# Altium footprint library Pakage_lib.pcblib: 90 footprints (part 5 of 6)
Each footprint in its own frame and in the unit in brackets; x right, y up, seen from the top. Pads: shape width x height; smd on the part's side, far side on the other; paste and mask are expansions set on the pad; w line width, h text height; cw(c..) or ccw(c..) is an arc to the next point about the centre after c.
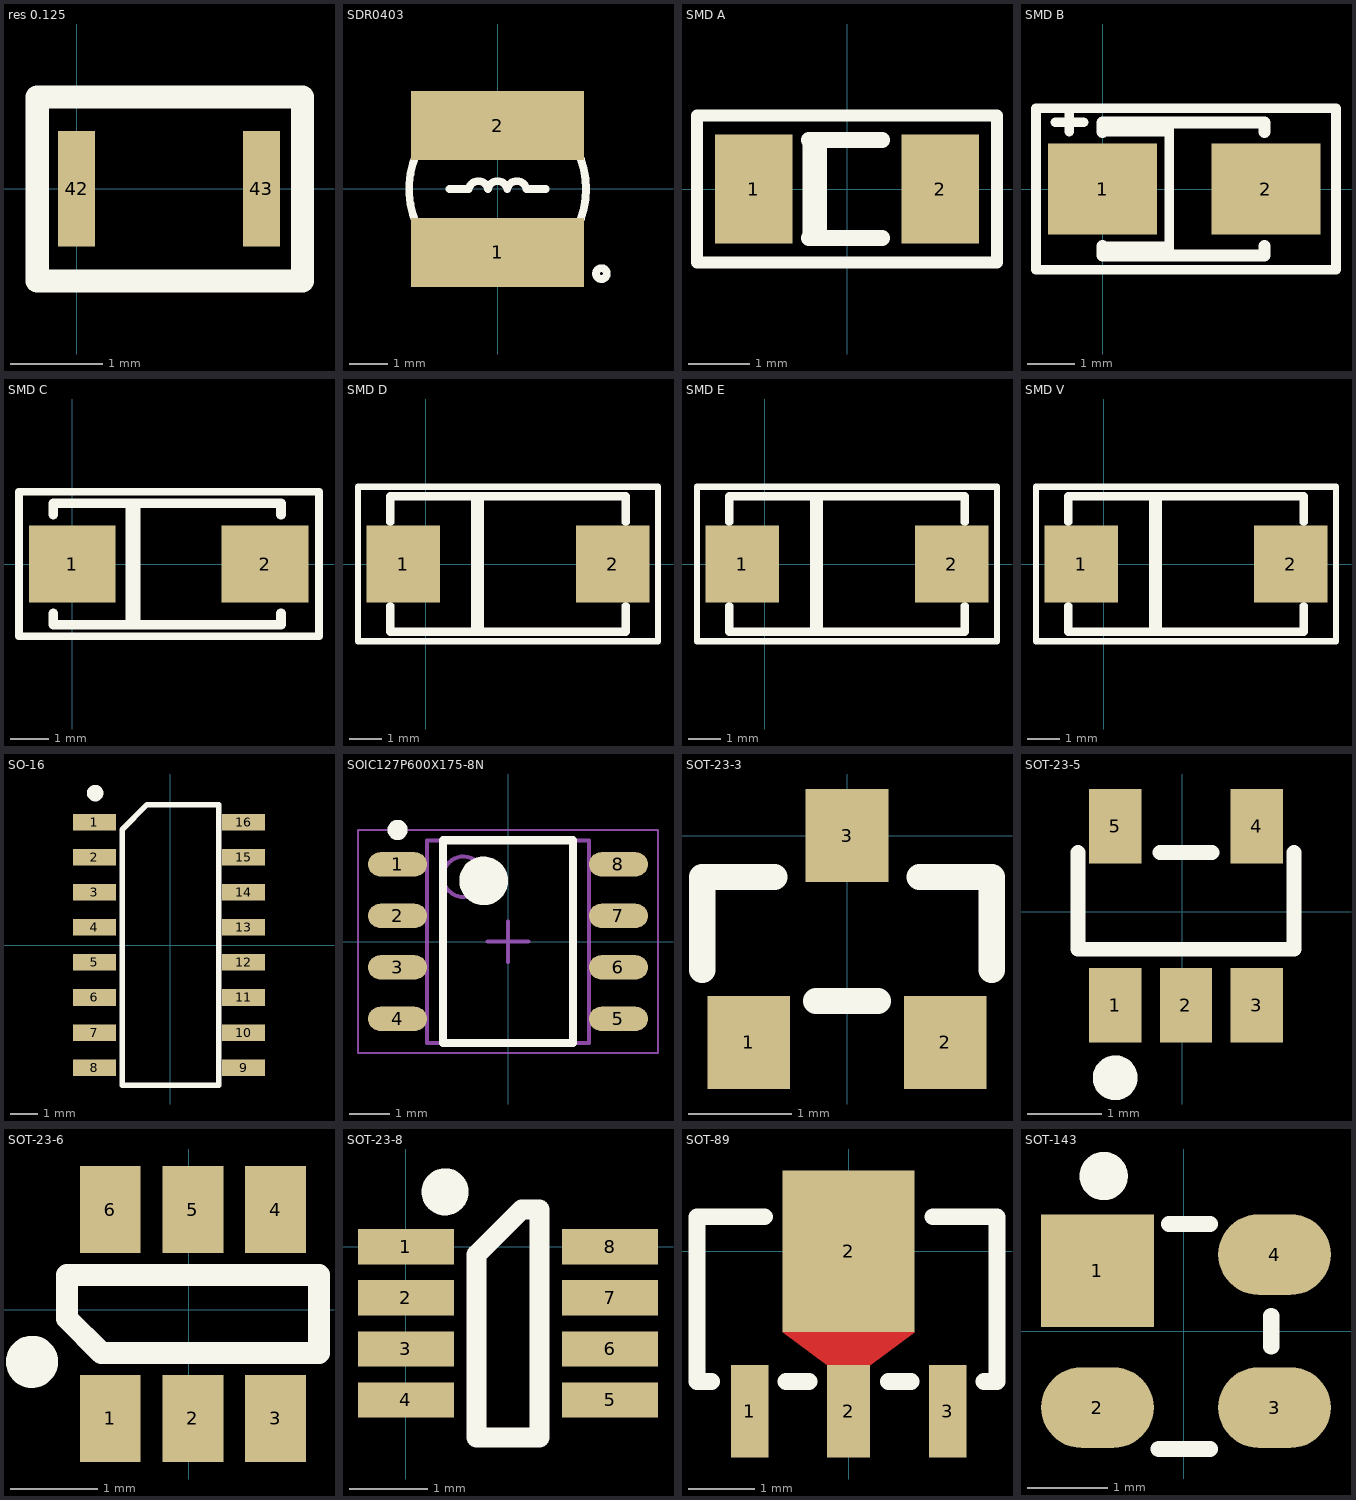
[diagram p4: the footprints below, top view; thin cyan lines are the x and y axes]

## res 0.125 [mm]
pads (2):
  rect 0.4x1.25 smd: 42(0,0) 43(2,0)
Top Overlay:
  lines w0.254: 2.444,0.994 -0.429,0.994 -0.429,-1 2,-1 2.446,-1 2.446,0.992

## SDR0403 [mm] "Bourns Inductor SDR0403 series"
pads (2):
  rect 4.5x1.8 smd: 1(0,-1.65) 2(0,1.65)
Top Overlay:
  circle w0.2: c2.7,-2.2 r0.141
  circle w0.2: c0,0 r2.3
  lines w0.2: -1.25,0 -0.75,0 cw(c-0.5,-0.05) -0.25,0 cw(c0,-0.05) 0.25,0 cw(c0.5,-0.05) 0.75,0 1.25,0
3D body "User Library-Inductor SDR0403 Series.STEP": height 3.25, standoff 0, extent -2.25,-2.201 2.25,2.201

## SMD A [mil] "SMD A Tantalum electrolytic capacitor"
pads (2):
  rect 50x70 smd: 1(-60.04,0) 2(59.96,0)
Top Overlay:
  lines w7.87: -24.61,-31.5 -24.61,31.5 ; -16.73,-31.5 -16.73,31.5 ; -96.46,-47.24 -96.46,47.24 96.46,47.24 96.46,-47.24 -96.46,-47.24
  lines w10: -24.61,-31.5 22.64,-31.5 ; -24.61,31.5 22.64,31.5
3D body "User Library-Tantalum Cap Case A.STEP": height 63, standoff -0.03, extent -61.02,-31.5 64.96,31.5

## SMD B [mil] "SMD B Tantalum electrolytic capacitor"
pads (2):
  rect 90x75 smd: 1(0,0) 2(135,0)
Top Overlay:
  lines w7.87: -39.37,55.12 -15.75,55.12 ; -27.56,47.24 -27.56,66.93 ; 0,-47.24 55.12,-47.24 ; 0,47.24 51.18,47.24 ; 55.12,-55.12 55.12,51.18 ; -55.12,-66.93 -55.12,66.93 192.91,66.93 192.91,-66.93 -55.12,-66.93 ; 47.24,-55.12 47.24,-55.12
  lines w10: 133.86,-47.24 133.86,-55.12 0,-55.12 0,-47.24 ; 133.86,47.24 133.86,55.12 0,55.12 0,47.24 ; 0,-47.24 0,-47.24 ; 0,47.24 0,47.24
3D body "User Library-SMD B.STEP": height 76.82, standoff 1.57, extent -3.21,-56.1 141,54.13

## SMD C [mil] "SMD C Tantalum electrolytic capacitor"
pads (2):
  rect 90x80 smd: 1(0,0) 2(200,0)
Top Overlay:
  lines w7.87: 59.06,-59.06 59.06,62.99 ; 66.93,-62.99 66.93,62.99 ; -55.12,-74.8 255.91,-74.8 255.91,74.8 -55.12,74.8 -55.12,-74.8
  lines w10: -19.68,-51.18 -19.68,-62.99 216.54,-62.99 216.54,-51.18 ; -19.68,51.18 -19.68,62.99 216.54,62.99 216.54,51.18
3D body "User Library-C_case.STEP": height 106.3, standoff 0, extent -21.65,-66.93 218.51,64.96

## SMD D [mm] "SMD D Tantalum electrolytic capacitor"
pads (2):
  rect 2.286x2.4 smd: 1(-0.7,0) 2(5.8,0)
Top Overlay:
  lines w0.2: 1.5,-2.1 1.5,2.1 ; 1.7,-2.1 1.7,2.1 ; -2.1,-2.4 -2.1,2.4 7.2,2.4 7.2,-2.4 -2.1,-2.4
  lines w0.254: -1.1,-1.3 -1.1,-2.1 6.2,-2.1 6.2,-1.3 ; -1.1,1.3 -1.1,2.1 6.2,2.1 6.2,1.3
3D body "User Library-CAP_TANT_7343-31.step": height 3.1, standoff 0, extent -1.25,-2.3 6.35,2.3

## SMD E [mm] "SMD E Tantalum electrolytic capacitor"
pads (2):
  rect 2.286x2.4 smd: 1(-0.7,0) 2(5.8,0)
Top Overlay:
  lines w0.2: 1.5,-2.1 1.5,2.1 ; 1.7,-2.1 1.7,2.1 ; -2.1,-2.4 7.2,-2.4 7.2,2.4 -2.1,2.4 -2.1,-2.4
  lines w0.254: -1.1,-1.3 -1.1,-2.1 6.2,-2.1 6.2,-1.3 ; -1.1,1.3 -1.1,2.1 6.2,2.1 6.2,1.3
3D body "User Library-AVX_E_CASE.step": height 4.2, standoff 0, extent -1.15,-2.25 6.25,2.2

## SMD V [mm] "SMD V Tantalum electrolytic capacitor"
pads (2):
  rect 2.286x2.4 smd: 1(-0.7,0) 2(5.8,0)
Top Overlay:
  lines w0.2: 1.5,-2.1 1.5,2.1 ; 1.7,-2.1 1.7,2.1 ; -2.1,-2.4 -2.1,2.4 7.2,2.4 7.2,-2.4 -2.1,-2.4
  lines w0.254: -1.1,-1.3 -1.1,-2.1 6.2,-2.1 6.2,-1.3 ; -1.1,1.3 -1.1,2.1 6.2,2.1 6.2,1.3
3D body "User Library-CaseV_7343-20.step": height 2, standoff 0, extent -1.15,-2.175 6.15,2.125

## SO-16 [mm]
pads (16):
  rect 1.55x0.6 smd: 1(-2.75,4.45) 2(-2.75,3.18) 3(-2.75,1.91) 4(-2.75,0.64) 5(-2.75,-0.63) 6(-2.75,-1.9) 7(-2.75,-3.17) 8(-2.75,-4.44) 9(2.65,-4.44) 10(2.65,-3.17) 11(2.65,-1.9) 12(2.65,-0.63) 13(2.65,0.64) 14(2.65,1.91) 15(2.65,3.18) 16(2.65,4.45)
Top Overlay:
  circle w0.3: c-2.725,5.5 r0.15
  lines w0.2: 0.225,5.085 -0.84,5.085 -1.75,4.175 -1.75,-5.075 1.75,-5.075 1.75,5.085 0.267,5.085
3D body "User Library-so16.STEP": height 1.7, standoff 0, extent -3.05,-5.1 2.95,5.1

## SOIC127P600X175-8N [mm] "SOIC, 8-Leads, Body 4,90x3,90mm, Pitch 1,27mm, IPC Medium Density"
height 1.75
pads (8):
  oval 1.45x0.6 smd: 1(-2.725,1.905) 2(-2.725,0.635) 3(-2.725,-0.635) 4(-2.725,-1.905) 5(2.725,-1.905) 6(2.725,-0.635) 7(2.725,0.635) 8(2.725,1.905)
Top Overlay:
  circle w0.6: c-0.6,1.5 r0.3
  circle w0.25: c-2.725,2.755 r0.125
  lines w0.2: -1.6,-2.5 1.6,-2.5 1.6,2.5 -1.6,2.5 -1.6,-2.5
Mechanical 13:
  circle w0.1: c-1.1,1.6 r0.5
  lines w0.1: -2,-2.5 2,-2.5 2,2.5 -2,2.5 -2,-2.5
Mechanical 15:
  lines w0.05: -3.7,-2.75 3.7,-2.75 3.7,2.75 -3.7,2.75 -3.7,-2.75
  lines w0.1: -0.5,0 0.5,0 ; 0,-0.5 0,0.5
3D body: height 1.75, standoff 0.1, extent -2,-2.5 2,2.5

## SOT-23-3 [mm]
pads (3):
  rect 0.8x0.9 smd: 1(-0.95,-2) 2(0.95,-2) 3(0,0)
Top Overlay:
  lines w0.254: -1.4,-1.3 -1.4,-0.4 -0.7,-0.4 ; -0.3,-1.6 0.3,-1.6 ; 0.7,-0.4 1.4,-0.4 1.4,-1.3
3D body "User Library-SOT-23-2.STEP": height 1.08, standoff 0, extent -1.5,-2.32 1.5,0.32

## SOT-23-5 [mm]
pads (5):
  rect 0.7x1 smd: 1(-0.9,-1.25) 2(0.05,-1.25) 3(1,-1.25) 4(1,1.15) 5(-0.9,1.15)
Top Overlay:
  circle w0.3: c-0.9,-2.225 r0.15
  lines w0.2: -1.4,0.8 -1.4,-0.5 1.5,-0.5 1.5,0.8 ; -0.3,0.8 0.4,0.8
3D body "User Library-SOT23-5-1.STEP": height 1.3, standoff 0, extent -1.5,-1.5 1.5,1.5

## SOT-23-6 [mm]
pads (6):
  rect 0.7x1 smd: 1(-0.9,-1.25) 2(0.05,-1.25) 3(1,-1.25) 4(1,1.15) 5(0.05,1.15) 6(-0.9,1.15)
Top Overlay:
  circle w0.3: c-1.8,-0.6 r0.15
  lines w0.254: -1.4,-0.1 -1.4,0.4 1.5,0.4 1.5,-0.5 -1,-0.5 -1.4,-0.1
3D body "User Library-SOT23-6-2.STEP": height 1.45, standoff 0, extent -1.45,-1.4 1.45,1.4

## SOT-23-8 [mm]
pads (8):
  rect 1.22x0.45 smd: 1(0,0) 2(0,-0.65) 3(0,-1.3) 4(0,-1.95) 5(2.6,-1.95) 6(2.6,-1.3) 7(2.6,-0.65) 8(2.6,0)
Top Overlay:
  circle w0.3: c0.5,0.7 r0.15
  lines w0.254: 0.9,-2.425 0.9,-0.1 1.475,0.475 1.7,0.475 1.7,-2.425 0.9,-2.425
3D body "User Library-TSOT-23-8.STEP": height 1, standoff 0, extent -0.15,-2.45 2.65,0.45

## SOT-89 [mm]
pads (4):
  rect 0.57x1.4 smd: 1(-1.5,-2.425) 3(1.5,-2.425)
  rect 0.65x1.4 smd: 2(0,-2.425)
  rect 2x2.45 smd: 2(0,0)
Top Layer:
  region: 0.325,-1.725 1,-1.225 -1,-1.225 -0.325,-1.725
Top Overlay:
  lines w0.254: -2.075,-1.975 -2.3,-1.975 -2.3,0.525 -1.275,0.525 ; -0.95,-1.975 -0.6,-1.975 ; 0.6,-1.975 0.95,-1.975 ; 1.275,0.525 2.25,0.525 2.25,-1.975 2.05,-1.975
Top Solder:
  region: -1.1,-1.325 -0.425,-1.825 0.425,-1.825 1.1,-1.325
3D body "SW3dPS-SOT89.STEP": height 1.59, standoff -0.02, extent -2.315,-3.058 2.286,1.192

## SOT-143 [mm]
pads (4):
  rect 1.4x1.4 smd: 1(-1.075,0.75)
  oval 1.4x1 smd: 2(-1.075,-0.95) 3(1.125,-0.95) 4(1.125,0.95)
Top Overlay:
  circle w0.3: c-0.997,1.925 r0.15
  lines w0.2: -0.313,-1.463 0.322,-1.463 ; -0.186,1.331 0.322,1.331 ; 1.084,-0.193 1.084,0.188
3D body "User Library-sot143.STEP": height 1, standoff 0, extent -1.41,-1.135 1.51,1.285